# Altium integrated library Tray 1 Expansion Board Prototype.IntLib: 11 symbols
Pins are listed as number, name and electrical type; pins without a type are passive.

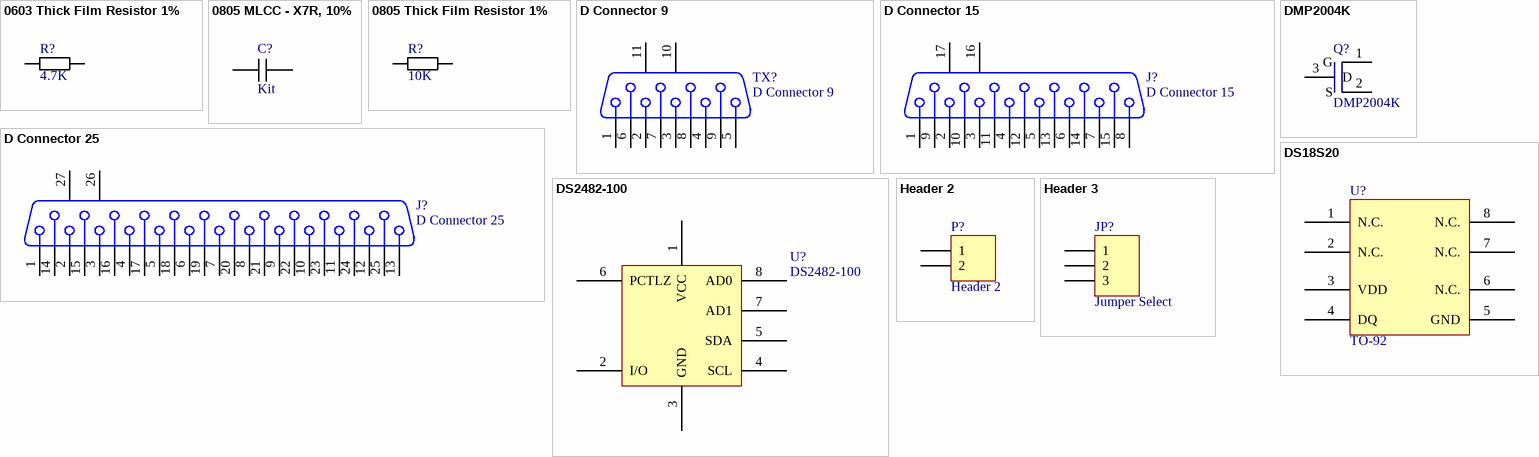
[diagram p0: symbols 0603 Thick Film Resistor 1% to Header 3]

## 0603 Thick Film Resistor 1%
designator R?, comment value 4.7K  (hidden comment: 0805 Resistor)
0805 Thick Film Resistor 1%; Manufacturer: Kit; Supplier: Kit; Supplier P/N: Kit; Manufacturer P/N: Kit
footprint 0805 Resistor
pins: 1, 2

## 0805 MLCC - X7R, 10%
designator C?, comment value Kit  (hidden comment: 0805 Cap)
0805 MLCC - X7R, 10%; Supplier: Kit; Supplier P/N: Kit; Manufacturer: Kit; Manufacturer P/N: Kit
footprint 0805 Cap (0805 Capacitor)
pins: 1, 2

## 0805 Thick Film Resistor 1%
designator R?, comment value 10K  (hidden comment: 0805 Resistor)
0805 Thick Film Resistor 1%; Manufacturer: Kit; Supplier: Kit; Supplier P/N: Kit; Manufacturer P/N: Kit
footprint 0805 Resistor
pins: 1, 2

## D Connector 9
designator TX?
Receptacle Assembly, 9 Position, Right Angle; Supplier: TBD; Supplier P/N: TBD
signal-integrity model Connector
footprint DSUB Upright (171-009-213R911)
pins: 1, 2, 3, 4, 5, 6, 7, 8, 9, 10 MH1, 11 MH2

## D Connector 15
designator J?
Receptacle Assembly, 15 Position, Right Angle; Supplier: TBD; Supplier P/N: TBD
footprint DSUB1.385-2H15 (Connector; D Subminiature; 15 Position; Right Angle; Pitch 1.385 mm)
signal-integrity model Connector
pins: 1, 2, 3, 4, 5, 6, 7, 8, 9, 10, 11, 12, 13, 14, 15, 16 MH1, 17 MH2

## D Connector 25
designator J?
Receptacle Assembly, 25 Position, Right Angle; Supplier: TBD; Supplier P/N: TBD
footprint DSUB1.385-2H25A (Connector; D Subminiature; 25 Position; Right Angle; Pitch 1.385 mm)
signal-integrity model Connector
pins: 1, 2, 3, 4, 5, 6, 7, 8, 9, 10, 11, 12, 13, 14, 15, 16, 17, 18, 19, 20, 21, 22, 23, 24, 25, 26 MH1, 27 MH2

## DMP2004K
designator Q?
MOSFET P-CH 20V 600MA SOT23-3; Supplier: Digikey; Supplier P/N: DMP2004KDICT-ND
footprint DMP2004KDITR-ND (SOT23, 3-Leads, Body 3.0x2.5mm (max), Pitch 0.89mm, IPC Medium Density)
pins: 1 G, 2 S, 3 D

## DS18S20
designator U?, comment TO-92
1-Wire Digital Thermometer; Supplier: Digikey; Supplier P/N: DS18S20Z+T&RCT-ND
footprint DS18S20 (SOIC, 8-Leads, Body 5.0x4.0mm (max), Pitch 1.27mm, IPC Medium Density)
pins: 1 N.C., 2 N.C., 3 VDD, 4 DQ, 5 GND, 6 N.C., 7 N.C., 8 N.C.

## DS2482-100
designator U?
I2C to 1-Wire Master; Supplier: Digikey; Supplier P/N: DS2482S-100+T&RCT-ND
footprint DS2482-100 (SOIC, 8-Leads, Body 5.0x4.0mm (max), Pitch 1.27mm, IPC Medium Density)
pins: 1 VCC, 2 I/O, 3 GND, 4 SCL, 5 SDA, 6 PCTLZ, 7 AD1, 8 AD0

## Header 2
designator P?
Header, 2-Pin; Supplier: Kit; Supplier P/N: Kit
footprint HDR1X2 (Connector; Header; 2 Position)
signal-integrity model Connector
pins: 1, 2

## Header 3
designator JP?, comment Jumper Select  (no BOM)
Header, 3-Pin
signal-integrity model Connector
footprint SOLDER_JUMPER_3_A
pins: 1, 2, 3